# Altium footprint library SOT-323.PcbLib: 1 footprints
Each footprint in its own frame and in the unit in brackets; x right, y up, seen from the top. Pads: shape width x height; smd on the part's side, far side on the other; paste and mask are expansions set on the pad; w line width, h text height; cw(c..) or ccw(c..) is an arc to the next point about the centre after c.
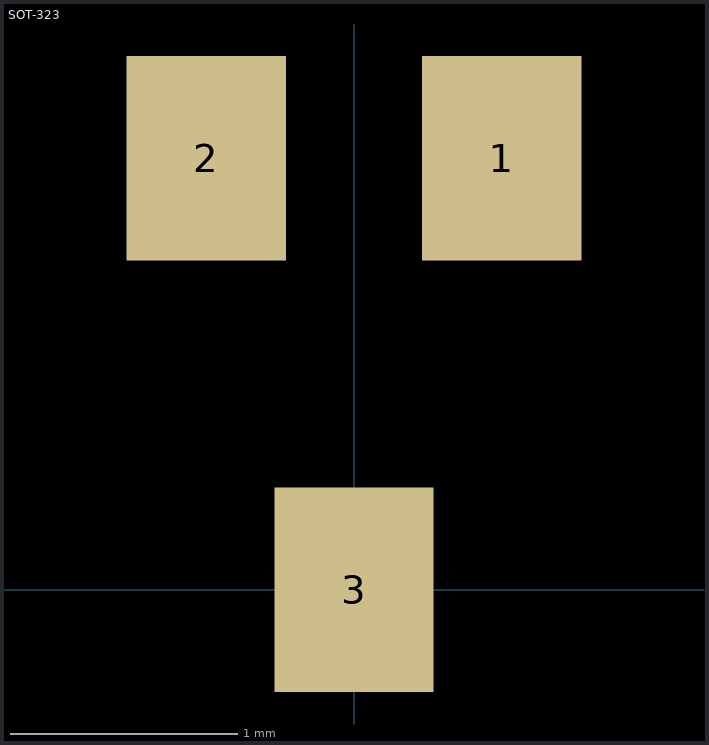
[diagram p0: the footprint, top view; thin cyan lines are the x and y axes]

## SOT-323 [mm]
pads (3):
  rect 0.7x0.9 smd: 1(0.65,1.9) 2(-0.65,1.9) 3(0,0)